# EAGLE library part DS09E (library switch-dil)
DIL/CODE SWITCH
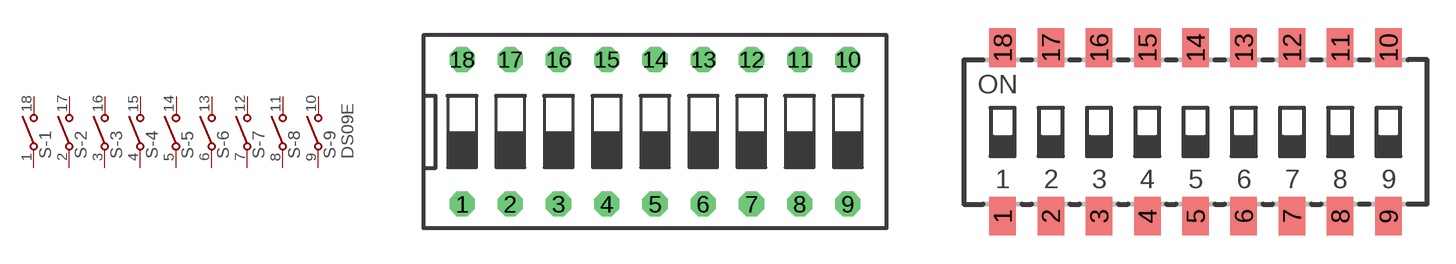
[diagram p15: symbol with the pads of DS-09; footprints DS-09, SDA09SK]

Designator prefix S; gates -1=S -2=S -3=S -4=S -5=S -6=S -7=S -8=S -9=S+V

## DS09E  [DS-09]
1  -1:1  pas
2  -2:1  pas
3  -3:1  pas
4  -4:1  pas
5  -5:1  pas
6  -6:1  pas
7  -7:1  pas
8  -8:1  pas
9  -9:1  pas
10  -9:2  pas
11  -8:2  pas
12  -7:2  pas
13  -6:2  pas
14  -5:2  pas
15  -4:2  pas
16  -3:2  pas
17  -2:2  pas
18  -1:2  pas

## DS09E-SDA09SK  [SDA09SK]
Pads as for DS-09

## DS09E-DA-09  [DA-09]
Pads as for DS-09

## Footprint DS-09 (pad centres in mm)
DIL/CODE SWITCH Mors distributor Buerklin, 17G564
drill 0.813 octagon: 1 -10.16,-3.81; 2 -7.62,-3.81; 3 -5.08,-3.81; 4 -2.54,-3.81; 5 0,-3.81; 6 2.54,-3.81; 7 5.08,-3.81; 8 7.62,-3.81; 9 10.16,-3.81; 10 10.16,3.81; 11 7.62,3.81; 12 5.08,3.81; 13 2.54,3.81; 14 0,3.81; 15 -2.54,3.81; 16 -5.08,3.81; 17 -7.62,3.81; 18 -10.16,3.81

## Footprint SDA09SK (pad centres in mm)
C&K SDA Series
smd 1.397 x 2.032: 1 -10.16,-4.445; 2 -7.62,-4.445; 3 -5.08,-4.445; 4 -2.54,-4.445; 5 0,-4.445; 6 2.54,-4.445; 7 5.08,-4.445; 8 7.62,-4.445; 9 10.16,-4.445; 10 10.16,4.445; 11 7.62,4.445; 12 5.08,4.445; 13 2.54,4.445; 14 0,4.445; 15 -2.54,4.445; 16 -5.08,4.445; 17 -7.62,4.445; 18 -10.16,4.445

## Footprint DA-09 (pad centres in mm)
DIL/CODE SWITCH Mors
drill 0.813 octagon: 1 -10.16,-1.27; 2 -7.62,-1.27; 3 -5.08,-1.27; 4 -2.54,-1.27; 5 0,-1.27; 6 2.54,-1.27; 7 5.08,-1.27; 8 7.62,-1.27; 9 10.16,-1.27; 10 10.16,1.27; 11 7.62,1.27; 12 5.08,1.27; 13 2.54,1.27; 14 0,1.27; 15 -2.54,1.27; 16 -5.08,1.27; 17 -7.62,1.27; 18 -10.16,1.27